# Altium integrated library Maxim Analog Comparator.IntLib: 215 symbols (part 1 of 5)
Pins are listed as number, name and electrical type; pins without a type are passive.

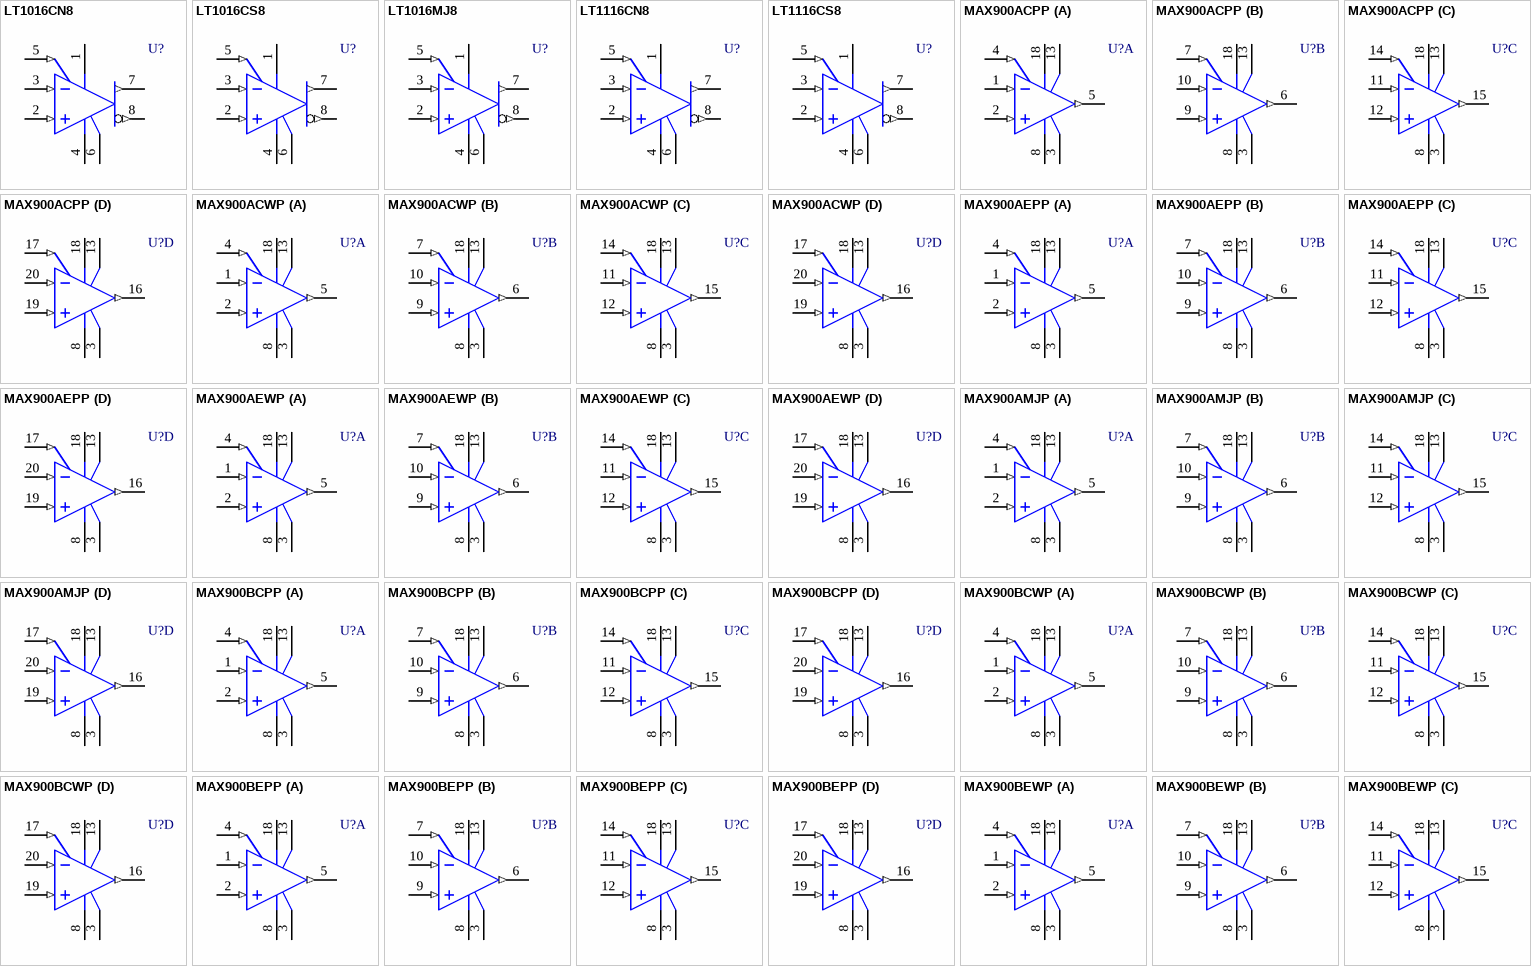
[diagram p0: symbols LT1016CN8 to MAX900BEWP]

## LT1016CN8
designator U?
Ultra-Fast, Precision TTL Comparator; Published: 16-Jan-2001; LatestRevisionDate: 29-May-2009; LatestRevisionNote: Component Body Added.; DatasheetVersion: Mar-1993; PackageVersion: RevB, 21-0043; PackageReference: PA8; Publisher: Altium Limited; PackageDescription: DIP, 8-Pin, Row Spacing 7.62 mm, Pitch 2.54 mm; Code_JEDEC: MS-001-AB; ComponentLink1Description: Manufacturer Link; ComponentLink1URL: http://www.maxim-ic.com/
footprint PA8 (DIP, 8-Leads, Row Spacing 7.62mm, Pitch 2.54mm, Body 9.38x7.24mm)
3D model PA8 (DIP, 8-Pin, Row Spacing 7.62 mm, Pitch 2.54 mm)
pins: 1 V+ (power), 2 IN+ (in), 3 IN- (in), 4 V- (power), 5 LE (in), 6 GND (power), 7 Q (out), 8 ~{Q} (out)

## LT1016CS8
designator U?
Ultra-Fast, Precision TTL Comparator; Published: 16-Jan-2001; LatestRevisionDate: 13-Apr-2006; LatestRevisionNote: IPC-7351 Footprint Added.; DatasheetVersion: Mar-1993; PackageReference: NSO8; Publisher: Altium Limited; PackageDescription: 8-Pin Small Outline Integrated Circuit 1.27 mm Pitch; Code_JEDEC: MS-012-AA; Code_IPC: SOIC127P600-8; ComponentLink1Description: Manufacturer Link; ComponentLink1URL: http://www.maxim-ic.com/
footprint NSO8_N (SOIC, 8-Leads, Body 4.9x3.9mm, Pitch 1.27mm, IPC Medium Density)
footprint NSO8_L (SOIC, 8-Leads, Body 4.9x3.9mm, Pitch 1.27mm, IPC High Density)
footprint NSO8_M (SOIC, 8-Leads, Body 4.9x3.9mm, Pitch 1.27mm, IPC Low Density)
3D model NSO8 (8-Pin Small Outline Integrated Circuit 1.27 mm Pitch)
pins: 1 V+ (power), 2 IN+ (in), 3 IN- (in), 4 V- (power), 5 LE (in), 6 GND (power), 7 Q (out), 8 ~{Q} (out)

## LT1016MJ8
designator U?
Ultra-Fast, Precision TTL Comparator; Published: 16-Jan-2001; LatestRevisionDate: 29-May-2009; LatestRevisionNote: Component Body Added.; DatasheetVersion: Mar-1993; PackageVersion: 1996; PackageReference: JA8; Publisher: Altium Limited; PackageDescription: DIP, 8-Pin, Row Spacing 7.62 mm, Pitch 2.54 mm; ComponentLink1Description: Manufacturer Link; ComponentLink1URL: http://www.maxim-ic.com/
footprint JA8 (DIP, 8-Leads, Row Spacing 7.62mm, Pitch 2.54mm, Body 9.91x6.73mm)
3D model PA8 (DIP, 8-Pin, Row Spacing 7.62 mm, Pitch 2.54 mm)
pins: 1 V+ (power), 2 IN+ (in), 3 IN- (in), 4 V- (power), 5 LE (in), 6 GND (power), 7 Q (out), 8 ~{Q} (out)

## LT1116CN8
designator U?
Ultra-Fast, Precision TTL Comparator; Published: 16-Jan-2001; LatestRevisionDate: 29-May-2009; LatestRevisionNote: Component Body Added.; DatasheetVersion: Mar-1993; PackageVersion: RevB, 21-0043; PackageReference: PA8; Publisher: Altium Limited; PackageDescription: DIP, 8-Pin, Row Spacing 7.62 mm, Pitch 2.54 mm; Code_JEDEC: MS-001-AB; ComponentLink1Description: Manufacturer Link; ComponentLink1URL: http://www.maxim-ic.com/
footprint PA8 (DIP, 8-Leads, Row Spacing 7.62mm, Pitch 2.54mm, Body 9.38x7.24mm)
3D model PA8 (DIP, 8-Pin, Row Spacing 7.62 mm, Pitch 2.54 mm)
pins: 1 V+ (power), 2 IN+ (in), 3 IN- (in), 4 V- (power), 5 LE (in), 6 GND (power), 7 Q (out), 8 ~{Q} (out)

## LT1116CS8
designator U?
Ultra-Fast, Precision TTL Comparator; Published: 16-Jan-2001; LatestRevisionDate: 13-Apr-2006; LatestRevisionNote: IPC-7351 Footprint Added.; DatasheetVersion: Mar-1993; PackageReference: NSO8; Publisher: Altium Limited; PackageDescription: 8-Pin Small Outline Integrated Circuit 1.27 mm Pitch; Code_JEDEC: MS-012-AA; Code_IPC: SOIC127P600-8; ComponentLink1Description: Manufacturer Link; ComponentLink1URL: http://www.maxim-ic.com/
footprint NSO8_N (SOIC, 8-Leads, Body 4.9x3.9mm, Pitch 1.27mm, IPC Medium Density)
footprint NSO8_L (SOIC, 8-Leads, Body 4.9x3.9mm, Pitch 1.27mm, IPC High Density)
footprint NSO8_M (SOIC, 8-Leads, Body 4.9x3.9mm, Pitch 1.27mm, IPC Low Density)
3D model NSO8 (8-Pin Small Outline Integrated Circuit 1.27 mm Pitch)
pins: 1 V+ (power), 2 IN+ (in), 3 IN- (in), 4 V- (power), 5 LE (in), 6 GND (power), 7 Q (out), 8 ~{Q} (out)

## MAX900ACPP
designator U?
High-speed, Low-power Voltage Comparator; Note: Pin 18 is Analog V+ and pin 13 is Digital V+; Pin 8 is Analog V- and substrate.; Published: 16-Jan-2001; LatestRevisionDate: 29-May-2009; LatestRevisionNote: Component Body Added.; DatasheetVersion: Nov-1992; PackageVersion: RevB, 21-0043; PackageReference: PP20; Publisher: Altium Limited; PackageDescription: DIP, 20-Pin, Row Spacing 7.62 mm, Pitch 2.54 mm; Code_JEDEC: MS-001-AE; ComponentLink1Description: Manufacturer Link; ComponentLink1URL: http://www.maxim-ic.com/; ComponentLink2Description: Datasheet; ComponentLink2URL: http://pdfserv.maxim-ic.com/en/ds/MAX900-MAX903.pdf
footprint PP20 (DIP, 20-Leads, Row Spacing 7.62mm, Pitch 2.54mm, Body 26.16x7.24mm)
3D model PP20 (DIP, 20-Pin, Row Spacing 7.62 mm, Pitch 2.54 mm)
pins on every part: 3 GND (power), 8 V- (power), 13 V+ (power), 18 V+ (power)
part A pins: 1 IN- (in), 2 IN+ (in), 4 LTCH (in), 5 OUT (out)
part B pins: 6 OUT (out), 7 LTCH (in), 9 IN+ (in), 10 IN- (in)
part C pins: 11 IN- (in), 12 IN+ (in), 14 LTCH (in), 15 OUT (out)
part D pins: 16 OUT (out), 17 LTCH (in), 19 IN+ (in), 20 IN- (in)

## MAX900ACWP
designator U?
High-speed, Low-power Voltage Comparator; Note: Pin 18 is Analog V+ and pin 13 is Digital V+; Pin 8 is Analog V- and substrate.; Published: 16-Jan-2001; LatestRevisionDate: 13-Apr-2006; LatestRevisionNote: IPC-7351 Footprint Added.; DatasheetVersion: Nov-1992; PackageReference: WSO20; Publisher: Altium Limited; PackageDescription: 20-Pin Small Outline Integrated Circuit 1.27 mm Pitch; Code_JEDEC: MS-013-AC; Code_IPC: SOIC127P1030-20; ComponentLink1Description: Manufacturer Link; ComponentLink1URL: http://www.maxim-ic.com/; ComponentLink2Description: Datasheet; ComponentLink2URL: http://pdfserv.maxim-ic.com/en/ds/MAX900-MAX903.pdf
footprint WSO20_N (SOIC, 20-Leads, Body 12.8x7.5mm, Pitch 1.27mm, IPC Medium Density)
footprint WSO20_L (SOIC, 20-Leads, Body 12.8x7.5mm, Pitch 1.27mm, IPC High Density)
footprint WSO20_M (SOIC, 20-Leads, Body 12.8x7.5mm, Pitch 1.27mm, IPC Low Density)
3D model WSO20 (20-Pin Small Outline Integrated Circuit 1.27 mm Pitch)
pins on every part: 3 GND (power), 8 V- (power), 13 V+ (power), 18 V+ (power)
part A pins: 1 IN- (in), 2 IN+ (in), 4 LTCH (in), 5 OUT (out)
part B pins: 6 OUT (out), 7 LTCH (in), 9 IN+ (in), 10 IN- (in)
part C pins: 11 IN- (in), 12 IN+ (in), 14 LTCH (in), 15 OUT (out)
part D pins: 16 OUT (out), 17 LTCH (in), 19 IN+ (in), 20 IN- (in)

## MAX900AEPP
designator U?
High-speed, Low-power Voltage Comparator; Note: Pin 18 is Analog V+ and pin 13 is Digital V+; Pin 8 is Analog V- and substrate.; Published: 16-Jan-2001; LatestRevisionDate: 29-May-2009; LatestRevisionNote: Component Body Added.; DatasheetVersion: Nov-1992; PackageVersion: RevB, 21-0043; PackageReference: PP20; Publisher: Altium Limited; PackageDescription: DIP, 20-Pin, Row Spacing 7.62 mm, Pitch 2.54 mm; Code_JEDEC: MS-001-AE; ComponentLink1Description: Manufacturer Link; ComponentLink1URL: http://www.maxim-ic.com/; ComponentLink2Description: Datasheet; ComponentLink2URL: http://pdfserv.maxim-ic.com/en/ds/MAX900-MAX903.pdf
footprint PP20 (DIP, 20-Leads, Row Spacing 7.62mm, Pitch 2.54mm, Body 26.16x7.24mm)
3D model PP20 (DIP, 20-Pin, Row Spacing 7.62 mm, Pitch 2.54 mm)
pins on every part: 3 GND (power), 8 V- (power), 13 V+ (power), 18 V+ (power)
part A pins: 1 IN- (in), 2 IN+ (in), 4 LTCH (in), 5 OUT (out)
part B pins: 6 OUT (out), 7 LTCH (in), 9 IN+ (in), 10 IN- (in)
part C pins: 11 IN- (in), 12 IN+ (in), 14 LTCH (in), 15 OUT (out)
part D pins: 16 OUT (out), 17 LTCH (in), 19 IN+ (in), 20 IN- (in)

## MAX900AEWP
designator U?
High-speed, Low-power Voltage Comparator; Note: Pin 18 is Analog V+ and pin 13 is Digital V+; Pin 8 is Analog V- and substrate.; Published: 16-Jan-2001; LatestRevisionDate: 13-Apr-2006; LatestRevisionNote: IPC-7351 Footprint Added.; DatasheetVersion: Nov-1992; PackageReference: WSO20; Publisher: Altium Limited; PackageDescription: 20-Pin Small Outline Integrated Circuit 1.27 mm Pitch; Code_JEDEC: MS-013-AC; Code_IPC: SOIC127P1030-20; ComponentLink1Description: Manufacturer Link; ComponentLink1URL: http://www.maxim-ic.com/; ComponentLink2Description: Datasheet; ComponentLink2URL: http://pdfserv.maxim-ic.com/en/ds/MAX900-MAX903.pdf
footprint WSO20_N (SOIC, 20-Leads, Body 12.8x7.5mm, Pitch 1.27mm, IPC Medium Density)
footprint WSO20_L (SOIC, 20-Leads, Body 12.8x7.5mm, Pitch 1.27mm, IPC High Density)
footprint WSO20_M (SOIC, 20-Leads, Body 12.8x7.5mm, Pitch 1.27mm, IPC Low Density)
3D model WSO20 (20-Pin Small Outline Integrated Circuit 1.27 mm Pitch)
pins on every part: 3 GND (power), 8 V- (power), 13 V+ (power), 18 V+ (power)
part A pins: 1 IN- (in), 2 IN+ (in), 4 LTCH (in), 5 OUT (out)
part B pins: 6 OUT (out), 7 LTCH (in), 9 IN+ (in), 10 IN- (in)
part C pins: 11 IN- (in), 12 IN+ (in), 14 LTCH (in), 15 OUT (out)
part D pins: 16 OUT (out), 17 LTCH (in), 19 IN+ (in), 20 IN- (in)

## MAX900AMJP
designator U?
High-speed, Low-power Voltage Comparator; Note: Pin 18 is Analog V+ and pin 13 is Digital V+; Pin 8 is Analog V- and substrate.; Published: 16-Jan-2001; LatestRevisionDate: 29-May-2009; LatestRevisionNote: Component Body Added.; DatasheetVersion: Nov-1992; PackageVersion: 1996; PackageReference: JP20; Publisher: Altium Limited; PackageDescription: DIP, 20-Pin, Row Spacing 7.62 mm, Pitch 2.54 mm; Code_JEDEC: MS-001-AD; ComponentLink1Description: Manufacturer Link; ComponentLink1URL: http://www.maxim-ic.com/; ComponentLink2Description: Datasheet; ComponentLink2URL: http://pdfserv.maxim-ic.com/en/ds/MAX900-MAX903.pdf
footprint JP20 (DIP, 20-Leads, Row Spacing 7.62mm, Pitch 2.54mm, Body 25.91x6.73mm)
3D model PP20 (DIP, 20-Pin, Row Spacing 7.62 mm, Pitch 2.54 mm)
pins on every part: 3 GND (power), 8 V- (power), 13 V+ (power), 18 V+ (power)
part A pins: 1 IN- (in), 2 IN+ (in), 4 LTCH (in), 5 OUT (out)
part B pins: 6 OUT (out), 7 LTCH (in), 9 IN+ (in), 10 IN- (in)
part C pins: 11 IN- (in), 12 IN+ (in), 14 LTCH (in), 15 OUT (out)
part D pins: 16 OUT (out), 17 LTCH (in), 19 IN+ (in), 20 IN- (in)

## MAX900BCPP
designator U?
High-speed, Low-power Voltage Comparator; Note: Pin 18 is Analog V+ and pin 13 is Digital V+; Pin 8 is Analog V- and substrate.; Published: 16-Jan-2001; LatestRevisionDate: 29-May-2009; LatestRevisionNote: Component Body Added.; DatasheetVersion: Nov-1992; PackageVersion: RevB, 21-0043; PackageReference: PP20; Publisher: Altium Limited; PackageDescription: DIP, 20-Pin, Row Spacing 7.62 mm, Pitch 2.54 mm; Code_JEDEC: MS-001-AE; ComponentLink1Description: Manufacturer Link; ComponentLink1URL: http://www.maxim-ic.com/; ComponentLink2Description: Datasheet; ComponentLink2URL: http://pdfserv.maxim-ic.com/en/ds/MAX900-MAX903.pdf
footprint PP20 (DIP, 20-Leads, Row Spacing 7.62mm, Pitch 2.54mm, Body 26.16x7.24mm)
3D model PP20 (DIP, 20-Pin, Row Spacing 7.62 mm, Pitch 2.54 mm)
pins on every part: 3 GND (power), 8 V- (power), 13 V+ (power), 18 V+ (power)
part A pins: 1 IN- (in), 2 IN+ (in), 4 LTCH (in), 5 OUT (out)
part B pins: 6 OUT (out), 7 LTCH (in), 9 IN+ (in), 10 IN- (in)
part C pins: 11 IN- (in), 12 IN+ (in), 14 LTCH (in), 15 OUT (out)
part D pins: 16 OUT (out), 17 LTCH (in), 19 IN+ (in), 20 IN- (in)

## MAX900BCWP
designator U?
High-speed, Low-power Voltage Comparator; Note: Pin 18 is Analog V+ and pin 13 is Digital V+; Pin 8 is Analog V- and substrate.; Published: 16-Jan-2001; LatestRevisionDate: 13-Apr-2006; LatestRevisionNote: IPC-7351 Footprint Added.; DatasheetVersion: Nov-1992; PackageReference: WSO20; Publisher: Altium Limited; PackageDescription: 20-Pin Small Outline Integrated Circuit 1.27 mm Pitch; Code_JEDEC: MS-013-AC; Code_IPC: SOIC127P1030-20; ComponentLink1Description: Manufacturer Link; ComponentLink1URL: http://www.maxim-ic.com/; ComponentLink2Description: Datasheet; ComponentLink2URL: http://pdfserv.maxim-ic.com/en/ds/MAX900-MAX903.pdf
footprint WSO20_N (SOIC, 20-Leads, Body 12.8x7.5mm, Pitch 1.27mm, IPC Medium Density)
footprint WSO20_L (SOIC, 20-Leads, Body 12.8x7.5mm, Pitch 1.27mm, IPC High Density)
footprint WSO20_M (SOIC, 20-Leads, Body 12.8x7.5mm, Pitch 1.27mm, IPC Low Density)
3D model WSO20 (20-Pin Small Outline Integrated Circuit 1.27 mm Pitch)
pins on every part: 3 GND (power), 8 V- (power), 13 V+ (power), 18 V+ (power)
part A pins: 1 IN- (in), 2 IN+ (in), 4 LTCH (in), 5 OUT (out)
part B pins: 6 OUT (out), 7 LTCH (in), 9 IN+ (in), 10 IN- (in)
part C pins: 11 IN- (in), 12 IN+ (in), 14 LTCH (in), 15 OUT (out)
part D pins: 16 OUT (out), 17 LTCH (in), 19 IN+ (in), 20 IN- (in)

## MAX900BEPP
designator U?
High-speed, Low-power Voltage Comparator; Note: Pin 18 is Analog V+ and pin 13 is Digital V+; Pin 8 is Analog V- and substrate.; Published: 16-Jan-2001; LatestRevisionDate: 29-May-2009; LatestRevisionNote: Component Body Added.; DatasheetVersion: Nov-1992; PackageVersion: RevB, 21-0043; PackageReference: PP20; Publisher: Altium Limited; PackageDescription: DIP, 20-Pin, Row Spacing 7.62 mm, Pitch 2.54 mm; Code_JEDEC: MS-001-AE; ComponentLink1Description: Manufacturer Link; ComponentLink1URL: http://www.maxim-ic.com/; ComponentLink2Description: Datasheet; ComponentLink2URL: http://pdfserv.maxim-ic.com/en/ds/MAX900-MAX903.pdf
footprint PP20 (DIP, 20-Leads, Row Spacing 7.62mm, Pitch 2.54mm, Body 26.16x7.24mm)
3D model PP20 (DIP, 20-Pin, Row Spacing 7.62 mm, Pitch 2.54 mm)
pins on every part: 3 GND (power), 8 V- (power), 13 V+ (power), 18 V+ (power)
part A pins: 1 IN- (in), 2 IN+ (in), 4 LTCH (in), 5 OUT (out)
part B pins: 6 OUT (out), 7 LTCH (in), 9 IN+ (in), 10 IN- (in)
part C pins: 11 IN- (in), 12 IN+ (in), 14 LTCH (in), 15 OUT (out)
part D pins: 16 OUT (out), 17 LTCH (in), 19 IN+ (in), 20 IN- (in)

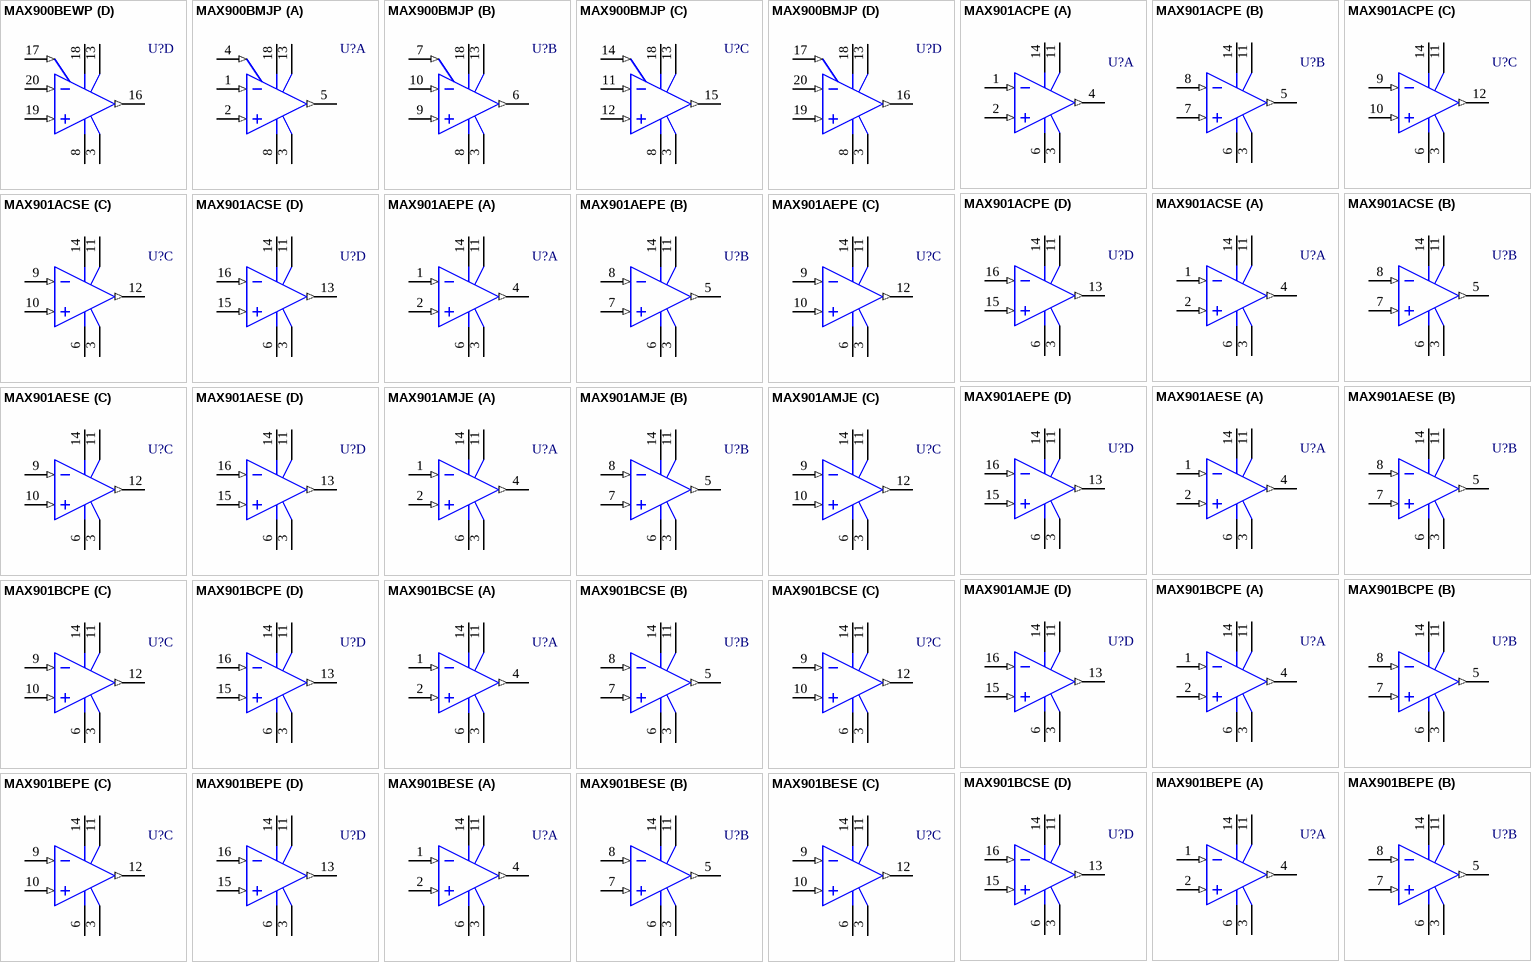
[diagram p1: symbols MAX900BEWP to MAX901BESE]

## MAX900BEWP
designator U?
High-speed, Low-power Voltage Comparator; Note: Pin 18 is Analog V+ and pin 13 is Digital V+; Pin 8 is Analog V- and substrate.; Published: 16-Jan-2001; LatestRevisionDate: 13-Apr-2006; LatestRevisionNote: IPC-7351 Footprint Added.; DatasheetVersion: Nov-1992; PackageReference: WSO20; Publisher: Altium Limited; PackageDescription: 20-Pin Small Outline Integrated Circuit 1.27 mm Pitch; Code_JEDEC: MS-013-AC; Code_IPC: SOIC127P1030-20; ComponentLink1Description: Manufacturer Link; ComponentLink1URL: http://www.maxim-ic.com/; ComponentLink2Description: Datasheet; ComponentLink2URL: http://pdfserv.maxim-ic.com/en/ds/MAX900-MAX903.pdf
footprint WSO20_N (SOIC, 20-Leads, Body 12.8x7.5mm, Pitch 1.27mm, IPC Medium Density)
footprint WSO20_L (SOIC, 20-Leads, Body 12.8x7.5mm, Pitch 1.27mm, IPC High Density)
footprint WSO20_M (SOIC, 20-Leads, Body 12.8x7.5mm, Pitch 1.27mm, IPC Low Density)
3D model WSO20 (20-Pin Small Outline Integrated Circuit 1.27 mm Pitch)
pins on every part: 3 GND (power), 8 V- (power), 13 V+ (power), 18 V+ (power)
part A pins: 1 IN- (in), 2 IN+ (in), 4 LTCH (in), 5 OUT (out)
part B pins: 6 OUT (out), 7 LTCH (in), 9 IN+ (in), 10 IN- (in)
part C pins: 11 IN- (in), 12 IN+ (in), 14 LTCH (in), 15 OUT (out)
part D pins: 16 OUT (out), 17 LTCH (in), 19 IN+ (in), 20 IN- (in)

## MAX900BMJP
designator U?
High-speed, Low-power Voltage Comparator; Note: Pin 18 is Analog V+ and pin 13 is Digital V+; Pin 8 is Analog V- and substrate.; Published: 16-Jan-2001; LatestRevisionDate: 29-May-2009; LatestRevisionNote: Component Body Added.; DatasheetVersion: Nov-1992; PackageVersion: 1996; PackageReference: JP20; Publisher: Altium Limited; PackageDescription: DIP, 20-Pin, Row Spacing 7.62 mm, Pitch 2.54 mm; Code_JEDEC: MS-001-AD; ComponentLink1Description: Manufacturer Link; ComponentLink1URL: http://www.maxim-ic.com/; ComponentLink2Description: Datasheet; ComponentLink2URL: http://pdfserv.maxim-ic.com/en/ds/MAX900-MAX903.pdf
footprint JP20 (DIP, 20-Leads, Row Spacing 7.62mm, Pitch 2.54mm, Body 25.91x6.73mm)
3D model PP20 (DIP, 20-Pin, Row Spacing 7.62 mm, Pitch 2.54 mm)
pins on every part: 3 GND (power), 8 V- (power), 13 V+ (power), 18 V+ (power)
part A pins: 1 IN- (in), 2 IN+ (in), 4 LTCH (in), 5 OUT (out)
part B pins: 6 OUT (out), 7 LTCH (in), 9 IN+ (in), 10 IN- (in)
part C pins: 11 IN- (in), 12 IN+ (in), 14 LTCH (in), 15 OUT (out)
part D pins: 16 OUT (out), 17 LTCH (in), 19 IN+ (in), 20 IN- (in)

## MAX901ACPE
designator U?
High-speed, Low-power Voltage Comparator; Note: Pin 14 is Analog V+ and pin 11 is Digital V+; Pin 6 is Analog V- and substrate.; Published: 16-Jan-2001; LatestRevisionDate: 29-May-2009; LatestRevisionNote: Component Body Added.; DatasheetVersion: Nov-1992; PackageVersion: 1997; PackageReference: PE16A; Publisher: Altium Limited; PackageDescription: DIP, 16-Pin, Row Spacing 7.62 mm, Pitch 2.54 mm; Code_JEDEC: MS-001-BB; ComponentLink1Description: Manufacturer Link; ComponentLink1URL: http://www.maxim-ic.com/; ComponentLink2Description: Datasheet; ComponentLink2URL: http://pdfserv.maxim-ic.com/en/ds/MAX900-MAX903.pdf
footprint PE16A (DIP, 16-Leads, Row Spacing 7.62mm, Pitch 2.54mm, Body 19.18x6.99mm)
3D model PE16 (DIP, 16-Pin, Row Spacing 7.62 mm, Pitch 2.54 mm)
pins on every part: 3 GND (power), 6 V- (power), 11 V+ (power), 14 V+ (power)
part A pins: 1 IN- (in), 2 IN+ (in), 4 OUT (out)
part B pins: 5 OUT (out), 7 IN+ (in), 8 IN- (in)
part C pins: 9 IN- (in), 10 IN+ (in), 12 OUT (out)
part D pins: 13 OUT (out), 15 IN+ (in), 16 IN- (in)

## MAX901ACSE
designator U?
High-speed, Low-power Voltage Comparator; Note: Pin 14 is Analog V+ and pin 11 is Digital V+; Pin 6 is Analog V- and substrate.; Published: 16-Jan-2001; LatestRevisionDate: 13-Apr-2006; LatestRevisionNote: IPC-7351 Footprint Added.; DatasheetVersion: Nov-1992; PackageReference: NSO16; Publisher: Altium Limited; PackageDescription: 16-Pin Small Outline Integrated Circuit 1.27 mm Pitch; Code_JEDEC: MS-012-AC; Code_IPC: SOIC127P600-16; ComponentLink1Description: Manufacturer Link; ComponentLink1URL: http://www.maxim-ic.com/; ComponentLink2Description: Datasheet; ComponentLink2URL: http://pdfserv.maxim-ic.com/en/ds/MAX900-MAX903.pdf
footprint NSO16_N (SOIC, 16-Leads, Body 9.9x3.9mm, Pitch 1.27mm, IPC Medium Density)
footprint NSO16_L (SOIC, 16-Leads, Body 9.9x3.9mm, Pitch 1.27mm, IPC High Density)
footprint NSO16_M (SOIC, 16-Leads, Body 9.9x3.9mm, Pitch 1.27mm, IPC Low Density)
3D model NSO16 (16-Pin Small Outline Integrated Circuit 1.27 mm Pitch)
pins on every part: 3 GND (power), 6 V- (power), 11 V+ (power), 14 V+ (power)
part A pins: 1 IN- (in), 2 IN+ (in), 4 OUT (out)
part B pins: 5 OUT (out), 7 IN+ (in), 8 IN- (in)
part C pins: 9 IN- (in), 10 IN+ (in), 12 OUT (out)
part D pins: 13 OUT (out), 15 IN+ (in), 16 IN- (in)

## MAX901AEPE
designator U?
High-speed, Low-power Voltage Comparator; Note: Pin 14 is Analog V+ and pin 11 is Digital V+; Pin 6 is Analog V- and substrate.; Published: 16-Jan-2001; LatestRevisionDate: 29-May-2009; LatestRevisionNote: Component Body Added.; DatasheetVersion: Nov-1992; PackageVersion: 1997; PackageReference: PE16A; Publisher: Altium Limited; PackageDescription: DIP, 16-Pin, Row Spacing 7.62 mm, Pitch 2.54 mm; Code_JEDEC: MS-001-BB; ComponentLink1Description: Manufacturer Link; ComponentLink1URL: http://www.maxim-ic.com/; ComponentLink2Description: Datasheet; ComponentLink2URL: http://pdfserv.maxim-ic.com/en/ds/MAX900-MAX903.pdf
footprint PE16A (DIP, 16-Leads, Row Spacing 7.62mm, Pitch 2.54mm, Body 19.18x6.99mm)
3D model PE16 (DIP, 16-Pin, Row Spacing 7.62 mm, Pitch 2.54 mm)
pins on every part: 3 GND (power), 6 V- (power), 11 V+ (power), 14 V+ (power)
part A pins: 1 IN- (in), 2 IN+ (in), 4 OUT (out)
part B pins: 5 OUT (out), 7 IN+ (in), 8 IN- (in)
part C pins: 9 IN- (in), 10 IN+ (in), 12 OUT (out)
part D pins: 13 OUT (out), 15 IN+ (in), 16 IN- (in)

## MAX901AESE
designator U?
High-speed, Low-power Voltage Comparator; Note: Pin 14 is Analog V+ and pin 11 is Digital V+; Pin 6 is Analog V- and substrate.; Published: 16-Jan-2001; LatestRevisionDate: 13-Apr-2006; LatestRevisionNote: IPC-7351 Footprint Added.; DatasheetVersion: Nov-1992; PackageReference: NSO16; Publisher: Altium Limited; PackageDescription: 16-Pin Small Outline Integrated Circuit 1.27 mm Pitch; Code_JEDEC: MS-012-AC; Code_IPC: SOIC127P600-16; ComponentLink1Description: Manufacturer Link; ComponentLink1URL: http://www.maxim-ic.com/; ComponentLink2Description: Datasheet; ComponentLink2URL: http://pdfserv.maxim-ic.com/en/ds/MAX900-MAX903.pdf
footprint NSO16_N (SOIC, 16-Leads, Body 9.9x3.9mm, Pitch 1.27mm, IPC Medium Density)
footprint NSO16_L (SOIC, 16-Leads, Body 9.9x3.9mm, Pitch 1.27mm, IPC High Density)
footprint NSO16_M (SOIC, 16-Leads, Body 9.9x3.9mm, Pitch 1.27mm, IPC Low Density)
3D model NSO16 (16-Pin Small Outline Integrated Circuit 1.27 mm Pitch)
pins on every part: 3 GND (power), 6 V- (power), 11 V+ (power), 14 V+ (power)
part A pins: 1 IN- (in), 2 IN+ (in), 4 OUT (out)
part B pins: 5 OUT (out), 7 IN+ (in), 8 IN- (in)
part C pins: 9 IN- (in), 10 IN+ (in), 12 OUT (out)
part D pins: 13 OUT (out), 15 IN+ (in), 16 IN- (in)

## MAX901AMJE
designator U?
High-speed, Low-power Voltage Comparator; Note: Pin 14 is Analog V+ and pin 11 is Digital V+; Pin 6 is Analog V- and substrate.; Published: 16-Jan-2001; LatestRevisionDate: 29-May-2009; LatestRevisionNote: Component Body Added.; DatasheetVersion: Nov-1992; PackageVersion: 1996; PackageReference: JE16; Publisher: Altium Limited; PackageDescription: DIP, 16-Pin, Row Spacing 7.62 mm, Pitch 2.54 mm; ComponentLink1Description: Manufacturer Link; ComponentLink1URL: http://www.maxim-ic.com/; ComponentLink2Description: Datasheet; ComponentLink2URL: http://pdfserv.maxim-ic.com/en/ds/MAX900-MAX903.pdf
footprint JE16 (DIP, 16-Leads, Row Spacing 7.62mm, Pitch 2.54mm, Body 20.37x6.73mm)
3D model JE16 (DIP, 16-Pin, Row Spacing 7.62 mm, Pitch 2.54 mm)
pins on every part: 3 GND (power), 6 V- (power), 11 V+ (power), 14 V+ (power)
part A pins: 1 IN- (in), 2 IN+ (in), 4 OUT (out)
part B pins: 5 OUT (out), 7 IN+ (in), 8 IN- (in)
part C pins: 9 IN- (in), 10 IN+ (in), 12 OUT (out)
part D pins: 13 OUT (out), 15 IN+ (in), 16 IN- (in)

## MAX901BCPE
designator U?
High-speed, Low-power Voltage Comparator; Note: Pin 14 is Analog V+ and pin 11 is Digital V+; Pin 6 is Analog V- and substrate.; Published: 16-Jan-2001; LatestRevisionDate: 29-May-2009; LatestRevisionNote: Component Body Added.; DatasheetVersion: Nov-1992; PackageVersion: 1997; PackageReference: PE16A; Publisher: Altium Limited; PackageDescription: DIP, 16-Pin, Row Spacing 7.62 mm, Pitch 2.54 mm; Code_JEDEC: MS-001-BB; ComponentLink1Description: Manufacturer Link; ComponentLink1URL: http://www.maxim-ic.com/; ComponentLink2Description: Datasheet; ComponentLink2URL: http://pdfserv.maxim-ic.com/en/ds/MAX900-MAX903.pdf
footprint PE16A (DIP, 16-Leads, Row Spacing 7.62mm, Pitch 2.54mm, Body 19.18x6.99mm)
3D model PE16 (DIP, 16-Pin, Row Spacing 7.62 mm, Pitch 2.54 mm)
pins on every part: 3 GND (power), 6 V- (power), 11 V+ (power), 14 V+ (power)
part A pins: 1 IN- (in), 2 IN+ (in), 4 OUT (out)
part B pins: 5 OUT (out), 7 IN+ (in), 8 IN- (in)
part C pins: 9 IN- (in), 10 IN+ (in), 12 OUT (out)
part D pins: 13 OUT (out), 15 IN+ (in), 16 IN- (in)

## MAX901BCSE
designator U?
High-speed, Low-power Voltage Comparator; Note: Pin 14 is Analog V+ and pin 11 is Digital V+; Pin 6 is Analog V- and substrate.; Published: 16-Jan-2001; LatestRevisionDate: 13-Apr-2006; LatestRevisionNote: IPC-7351 Footprint Added.; DatasheetVersion: Nov-1992; PackageReference: NSO16; Publisher: Altium Limited; PackageDescription: 16-Pin Small Outline Integrated Circuit 1.27 mm Pitch; Code_JEDEC: MS-012-AC; Code_IPC: SOIC127P600-16; ComponentLink1Description: Manufacturer Link; ComponentLink1URL: http://www.maxim-ic.com/; ComponentLink2Description: Datasheet; ComponentLink2URL: http://pdfserv.maxim-ic.com/en/ds/MAX900-MAX903.pdf
footprint NSO16_N (SOIC, 16-Leads, Body 9.9x3.9mm, Pitch 1.27mm, IPC Medium Density)
footprint NSO16_L (SOIC, 16-Leads, Body 9.9x3.9mm, Pitch 1.27mm, IPC High Density)
footprint NSO16_M (SOIC, 16-Leads, Body 9.9x3.9mm, Pitch 1.27mm, IPC Low Density)
3D model NSO16 (16-Pin Small Outline Integrated Circuit 1.27 mm Pitch)
pins on every part: 3 GND (power), 6 V- (power), 11 V+ (power), 14 V+ (power)
part A pins: 1 IN- (in), 2 IN+ (in), 4 OUT (out)
part B pins: 5 OUT (out), 7 IN+ (in), 8 IN- (in)
part C pins: 9 IN- (in), 10 IN+ (in), 12 OUT (out)
part D pins: 13 OUT (out), 15 IN+ (in), 16 IN- (in)

## MAX901BEPE
designator U?
High-speed, Low-power Voltage Comparator; Note: Pin 14 is Analog V+ and pin 11 is Digital V+; Pin 6 is Analog V- and substrate.; Published: 16-Jan-2001; LatestRevisionDate: 29-May-2009; LatestRevisionNote: Component Body Added.; DatasheetVersion: Nov-1992; PackageVersion: 1997; PackageReference: PE16A; Publisher: Altium Limited; PackageDescription: DIP, 16-Pin, Row Spacing 7.62 mm, Pitch 2.54 mm; Code_JEDEC: MS-001-BB; ComponentLink1Description: Manufacturer Link; ComponentLink1URL: http://www.maxim-ic.com/; ComponentLink2Description: Datasheet; ComponentLink2URL: http://pdfserv.maxim-ic.com/en/ds/MAX900-MAX903.pdf
footprint PE16A (DIP, 16-Leads, Row Spacing 7.62mm, Pitch 2.54mm, Body 19.18x6.99mm)
3D model PE16 (DIP, 16-Pin, Row Spacing 7.62 mm, Pitch 2.54 mm)
pins on every part: 3 GND (power), 6 V- (power), 11 V+ (power), 14 V+ (power)
part A pins: 1 IN- (in), 2 IN+ (in), 4 OUT (out)
part B pins: 5 OUT (out), 7 IN+ (in), 8 IN- (in)
part C pins: 9 IN- (in), 10 IN+ (in), 12 OUT (out)
part D pins: 13 OUT (out), 15 IN+ (in), 16 IN- (in)

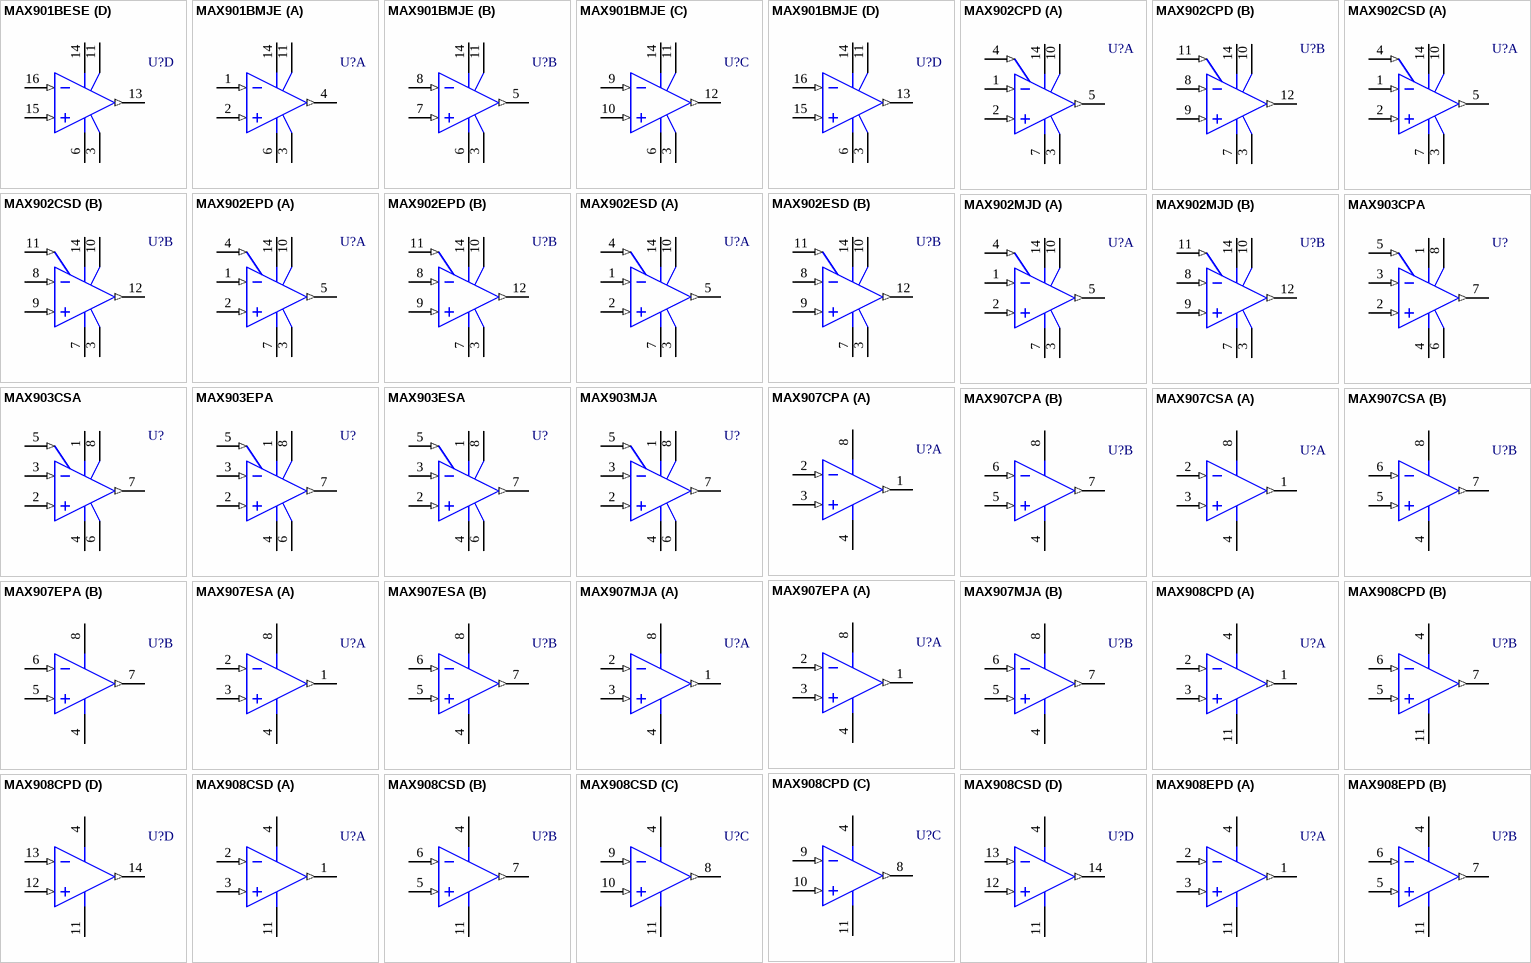
[diagram p2: symbols MAX901BESE to MAX908EPD]

## MAX901BESE
designator U?
High-speed, Low-power Voltage Comparator; Note: Pin 14 is Analog V+ and pin 11 is Digital V+; Pin 6 is Analog V- and substrate.; Published: 16-Jan-2001; LatestRevisionDate: 13-Apr-2006; LatestRevisionNote: IPC-7351 Footprint Added.; DatasheetVersion: Nov-1992; PackageReference: NSO16; Publisher: Altium Limited; PackageDescription: 16-Pin Small Outline Integrated Circuit 1.27 mm Pitch; Code_JEDEC: MS-012-AC; Code_IPC: SOIC127P600-16; ComponentLink1Description: Manufacturer Link; ComponentLink1URL: http://www.maxim-ic.com/; ComponentLink2Description: Datasheet; ComponentLink2URL: http://pdfserv.maxim-ic.com/en/ds/MAX900-MAX903.pdf
footprint NSO16_N (SOIC, 16-Leads, Body 9.9x3.9mm, Pitch 1.27mm, IPC Medium Density)
footprint NSO16_L (SOIC, 16-Leads, Body 9.9x3.9mm, Pitch 1.27mm, IPC High Density)
footprint NSO16_M (SOIC, 16-Leads, Body 9.9x3.9mm, Pitch 1.27mm, IPC Low Density)
3D model NSO16 (16-Pin Small Outline Integrated Circuit 1.27 mm Pitch)
pins on every part: 3 GND (power), 6 V- (power), 11 V+ (power), 14 V+ (power)
part A pins: 1 IN- (in), 2 IN+ (in), 4 OUT (out)
part B pins: 5 OUT (out), 7 IN+ (in), 8 IN- (in)
part C pins: 9 IN- (in), 10 IN+ (in), 12 OUT (out)
part D pins: 13 OUT (out), 15 IN+ (in), 16 IN- (in)

## MAX901BMJE
designator U?
High-speed, Low-power Voltage Comparator; Note: Pin 14 is Analog V+ and pin 11 is Digital V+; Pin 6 is Analog V- and substrate.; Published: 16-Jan-2001; LatestRevisionDate: 29-May-2009; LatestRevisionNote: Component Body Added.; DatasheetVersion: Nov-1992; PackageVersion: 1996; PackageReference: JE16; Publisher: Altium Limited; PackageDescription: DIP, 16-Pin, Row Spacing 7.62 mm, Pitch 2.54 mm; ComponentLink1Description: Manufacturer Link; ComponentLink1URL: http://www.maxim-ic.com/; ComponentLink2Description: Datasheet; ComponentLink2URL: http://pdfserv.maxim-ic.com/en/ds/MAX900-MAX903.pdf
footprint JE16 (DIP, 16-Leads, Row Spacing 7.62mm, Pitch 2.54mm, Body 20.37x6.73mm)
3D model JE16 (DIP, 16-Pin, Row Spacing 7.62 mm, Pitch 2.54 mm)
pins on every part: 3 GND (power), 6 V- (power), 11 V+ (power), 14 V+ (power)
part A pins: 1 IN- (in), 2 IN+ (in), 4 OUT (out)
part B pins: 5 OUT (out), 7 IN+ (in), 8 IN- (in)
part C pins: 9 IN- (in), 10 IN+ (in), 12 OUT (out)
part D pins: 13 OUT (out), 15 IN+ (in), 16 IN- (in)

## MAX902CPD
designator U?
High-speed, Low-power Voltage Comparator; Note: Pin 14 is Analog V+ and pin 10 is Digital V+; Pin 7 is Analog V- and substrate. Pins 6 and 13 are NC and not drawn.; Published: 16-Jan-2001; LatestRevisionDate: 29-May-2009; LatestRevisionNote: Component Body Added.; DatasheetVersion: Nov-1992; PackageVersion: RevB, 21-0043; PackageReference: PD14; Publisher: Altium Limited; PackageDescription: DIP, 14-Pin, Row Spacing 7.62 mm, Pitch 2.54 mm; Code_JEDEC: MS-001-AC; ComponentLink1Description: Manufacturer Link; ComponentLink1URL: http://www.maxim-ic.com/; ComponentLink2Description: Datasheet; ComponentLink2URL: http://pdfserv.maxim-ic.com/en/ds/MAX900-MAX903.pdf
footprint PD14 (DIP, 14-Leads, Row Spacing 7.62mm, Pitch 2.54mm, Body 19.05x7.24mm)
3D model PD14 (DIP, 14-Pin, Row Spacing 7.62 mm, Pitch 2.54 mm)
pins on every part: 3 GND (power), 7 V- (power), 10 V+ (power), 14 V+ (power)
part A pins: 1 IN- (in), 2 IN+ (in), 4 LTCH (in), 5 OUT (out)
part B pins: 8 IN- (in), 9 IN+ (in), 11 LTCH (in), 12 OUT (out)

## MAX902CSD
designator U?
High-speed, Low-power Voltage Comparator; Note: Pin 14 is Analog V+ and pin 10 is Digital V+; Pin 7 is Analog V- and substrate. Pins 6 and 13 are NC and not drawn.; Published: 16-Jan-2001; LatestRevisionDate: 13-Apr-2006; LatestRevisionNote: IPC-7351 Footprint Added.; DatasheetVersion: Nov-1992; PackageReference: NSO14; Publisher: Altium Limited; PackageDescription: 14-Pin Small Outline Integrated Circuit 1.27 mm Pitch; Code_JEDEC: MS-012-AB; Code_IPC: SOIC127P600-14; ComponentLink1Description: Manufacturer Link; ComponentLink1URL: http://www.maxim-ic.com/; ComponentLink2Description: Datasheet; ComponentLink2URL: http://pdfserv.maxim-ic.com/en/ds/MAX900-MAX903.pdf
footprint NSO14_N (SOIC, 14-Leads, Body 8.7x3.9mm, Pitch 1.27mm, IPC Medium Density)
footprint NSO14_L (SOIC, 14-Leads, Body 8.7x3.9mm, Pitch 1.27mm, IPC High Density)
footprint NSO14_M (SOIC, 14-Leads, Body 8.7x3.9mm, Pitch 1.27mm, IPC Low Density)
3D model NSO14 (14-Pin Small Outline Integrated Circuit 1.27 mm Pitch)
pins on every part: 3 GND (power), 7 V- (power), 10 V+ (power), 14 V+ (power)
part A pins: 1 IN- (in), 2 IN+ (in), 4 LTCH (in), 5 OUT (out)
part B pins: 8 IN- (in), 9 IN+ (in), 11 LTCH (in), 12 OUT (out)

## MAX902EPD
designator U?
High-speed, Low-power Voltage Comparator; Note: Pin 14 is Analog V+ and pin 10 is Digital V+; Pin 7 is Analog V- and substrate. Pins 6 and 13 are NC and not drawn.; Published: 16-Jan-2001; LatestRevisionDate: 29-May-2009; LatestRevisionNote: Component Body Added.; DatasheetVersion: Nov-1992; PackageVersion: RevB, 21-0043; PackageReference: PD14; Publisher: Altium Limited; PackageDescription: DIP, 14-Pin, Row Spacing 7.62 mm, Pitch 2.54 mm; Code_JEDEC: MS-001-AC; ComponentLink1Description: Manufacturer Link; ComponentLink1URL: http://www.maxim-ic.com/; ComponentLink2Description: Datasheet; ComponentLink2URL: http://pdfserv.maxim-ic.com/en/ds/MAX900-MAX903.pdf
footprint PD14 (DIP, 14-Leads, Row Spacing 7.62mm, Pitch 2.54mm, Body 19.05x7.24mm)
3D model PD14 (DIP, 14-Pin, Row Spacing 7.62 mm, Pitch 2.54 mm)
pins on every part: 3 GND (power), 7 V- (power), 10 V+ (power), 14 V+ (power)
part A pins: 1 IN- (in), 2 IN+ (in), 4 LTCH (in), 5 OUT (out)
part B pins: 8 IN- (in), 9 IN+ (in), 11 LTCH (in), 12 OUT (out)

## MAX902ESD
designator U?
High-speed, Low-power Voltage Comparator; Note: Pin 14 is Analog V+ and pin 10 is Digital V+; Pin 7 is Analog V- and substrate. Pins 6 and 13 are NC and not drawn.; Published: 16-Jan-2001; LatestRevisionDate: 13-Apr-2006; LatestRevisionNote: IPC-7351 Footprint Added.; DatasheetVersion: Nov-1992; PackageReference: NSO14; Publisher: Altium Limited; PackageDescription: 14-Pin Small Outline Integrated Circuit 1.27 mm Pitch; Code_JEDEC: MS-012-AB; Code_IPC: SOIC127P600-14; ComponentLink1Description: Manufacturer Link; ComponentLink1URL: http://www.maxim-ic.com/; ComponentLink2Description: Datasheet; ComponentLink2URL: http://pdfserv.maxim-ic.com/en/ds/MAX900-MAX903.pdf
footprint NSO14_N (SOIC, 14-Leads, Body 8.7x3.9mm, Pitch 1.27mm, IPC Medium Density)
footprint NSO14_L (SOIC, 14-Leads, Body 8.7x3.9mm, Pitch 1.27mm, IPC High Density)
footprint NSO14_M (SOIC, 14-Leads, Body 8.7x3.9mm, Pitch 1.27mm, IPC Low Density)
3D model NSO14 (14-Pin Small Outline Integrated Circuit 1.27 mm Pitch)
pins on every part: 3 GND (power), 7 V- (power), 10 V+ (power), 14 V+ (power)
part A pins: 1 IN- (in), 2 IN+ (in), 4 LTCH (in), 5 OUT (out)
part B pins: 8 IN- (in), 9 IN+ (in), 11 LTCH (in), 12 OUT (out)

## MAX902MJD
designator U?
High-speed, Low-power Voltage Comparator; Note: Pin 14 is Analog V+ and pin 10 is Digital V+; Pin 7 is Analog V- and substrate. Pins 6 and 13 are NC and not drawn.; Published: 16-Jan-2001; LatestRevisionDate: 29-May-2009; LatestRevisionNote: Component Body Added.; DatasheetVersion: Nov-1992; PackageVersion: 1996; PackageReference: JD14; Publisher: Altium Limited; PackageDescription: DIP, 14-Pin, Row Spacing 7.62 mm, Pitch 2.54 mm; ComponentLink1Description: Manufacturer Link; ComponentLink1URL: http://www.maxim-ic.com/; ComponentLink2Description: Datasheet; ComponentLink2URL: http://pdfserv.maxim-ic.com/en/ds/MAX900-MAX903.pdf
footprint JD14 (DIP, 14-Leads, Row Spacing 7.62mm, Pitch 2.54mm, Body 19.56x6.73mm)
3D model JD14 (DIP, 14-Pin, Row Spacing 7.62 mm, Pitch 2.54 mm)
pins on every part: 3 GND (power), 7 V- (power), 10 V+ (power), 14 V+ (power)
part A pins: 1 IN- (in), 2 IN+ (in), 4 LTCH (in), 5 OUT (out)
part B pins: 8 IN- (in), 9 IN+ (in), 11 LTCH (in), 12 OUT (out)

## MAX903CPA
designator U?
High-speed, Low-power Voltage Comparator; Note: Pin 1 is Analog V+ and pin 8 is Digital V+; Pin 4 is Analog V- and substrate.; Published: 16-Jan-2001; LatestRevisionDate: 29-May-2009; LatestRevisionNote: Component Body Added.; DatasheetVersion: Nov-1992; PackageVersion: RevB, 21-0043; PackageReference: PA8; Publisher: Altium Limited; PackageDescription: DIP, 8-Pin, Row Spacing 7.62 mm, Pitch 2.54 mm; Code_JEDEC: MS-001-AB; ComponentLink1Description: Manufacturer Link; ComponentLink1URL: http://www.maxim-ic.com/; ComponentLink2Description: Datasheet; ComponentLink2URL: http://pdfserv.maxim-ic.com/en/ds/MAX900-MAX903.pdf
footprint PA8 (DIP, 8-Leads, Row Spacing 7.62mm, Pitch 2.54mm, Body 9.38x7.24mm)
3D model PA8 (DIP, 8-Pin, Row Spacing 7.62 mm, Pitch 2.54 mm)
pins: 1 V+ (power), 2 IN+ (in), 3 IN- (in), 4 V- (power), 5 LTCH (in), 6 GND (power), 7 OUT (out), 8 V+ (power)

## MAX903CSA
designator U?
High-speed, Low-power Voltage Comparator; Note: Pin 1 is Analog V+ and pin 8 is Digital V+; Pin 4 is Analog V- and substrate.; Published: 16-Jan-2001; LatestRevisionDate: 13-Apr-2006; LatestRevisionNote: IPC-7351 Footprint Added.; DatasheetVersion: Nov-1992; PackageReference: NSO8; Publisher: Altium Limited; PackageDescription: 8-Pin Small Outline Integrated Circuit 1.27 mm Pitch; Code_JEDEC: MS-012-AA; Code_IPC: SOIC127P600-8; ComponentLink1Description: Manufacturer Link; ComponentLink1URL: http://www.maxim-ic.com/; ComponentLink2Description: Datasheet; ComponentLink2URL: http://pdfserv.maxim-ic.com/en/ds/MAX900-MAX903.pdf
footprint NSO8_N (SOIC, 8-Leads, Body 4.9x3.9mm, Pitch 1.27mm, IPC Medium Density)
footprint NSO8_L (SOIC, 8-Leads, Body 4.9x3.9mm, Pitch 1.27mm, IPC High Density)
footprint NSO8_M (SOIC, 8-Leads, Body 4.9x3.9mm, Pitch 1.27mm, IPC Low Density)
3D model NSO8 (8-Pin Small Outline Integrated Circuit 1.27 mm Pitch)
pins: 1 V+ (power), 2 IN+ (in), 3 IN- (in), 4 V- (power), 5 LTCH (in), 6 GND (power), 7 OUT (out), 8 V+ (power)

## MAX903EPA
designator U?
High-speed, Low-power Voltage Comparator; Note: Pin 1 is Analog V+ and pin 8 is Digital V+; Pin 4 is Analog V- and substrate.; Published: 16-Jan-2001; LatestRevisionDate: 29-May-2009; LatestRevisionNote: Component Body Added.; DatasheetVersion: Nov-1992; PackageVersion: RevB, 21-0043; PackageReference: PA8; Publisher: Altium Limited; PackageDescription: DIP, 8-Pin, Row Spacing 7.62 mm, Pitch 2.54 mm; Code_JEDEC: MS-001-AB; ComponentLink1Description: Manufacturer Link; ComponentLink1URL: http://www.maxim-ic.com/; ComponentLink2Description: Datasheet; ComponentLink2URL: http://pdfserv.maxim-ic.com/en/ds/MAX900-MAX903.pdf
footprint PA8 (DIP, 8-Leads, Row Spacing 7.62mm, Pitch 2.54mm, Body 9.38x7.24mm)
3D model PA8 (DIP, 8-Pin, Row Spacing 7.62 mm, Pitch 2.54 mm)
pins: 1 V+ (power), 2 IN+ (in), 3 IN- (in), 4 V- (power), 5 LTCH (in), 6 GND (power), 7 OUT (out), 8 V+ (power)

## MAX903ESA
designator U?
High-speed, Low-power Voltage Comparator; Note: Pin 1 is Analog V+ and pin 8 is Digital V+; Pin 4 is Analog V- and substrate.; Published: 16-Jan-2001; LatestRevisionDate: 13-Apr-2006; LatestRevisionNote: IPC-7351 Footprint Added.; DatasheetVersion: Nov-1992; PackageReference: NSO8; Publisher: Altium Limited; PackageDescription: 8-Pin Small Outline Integrated Circuit 1.27 mm Pitch; Code_JEDEC: MS-012-AA; Code_IPC: SOIC127P600-8; ComponentLink1Description: Manufacturer Link; ComponentLink1URL: http://www.maxim-ic.com/; ComponentLink2Description: Datasheet; ComponentLink2URL: http://pdfserv.maxim-ic.com/en/ds/MAX900-MAX903.pdf
footprint NSO8_N (SOIC, 8-Leads, Body 4.9x3.9mm, Pitch 1.27mm, IPC Medium Density)
footprint NSO8_L (SOIC, 8-Leads, Body 4.9x3.9mm, Pitch 1.27mm, IPC High Density)
footprint NSO8_M (SOIC, 8-Leads, Body 4.9x3.9mm, Pitch 1.27mm, IPC Low Density)
3D model NSO8 (8-Pin Small Outline Integrated Circuit 1.27 mm Pitch)
pins: 1 V+ (power), 2 IN+ (in), 3 IN- (in), 4 V- (power), 5 LTCH (in), 6 GND (power), 7 OUT (out), 8 V+ (power)

## MAX903MJA
designator U?
High-speed, Low-power Voltage Comparator; Note: Pin 1 is Analog V+ and pin 8 is Digital V+; Pin 4 is Analog V- and substrate.; Published: 16-Jan-2001; LatestRevisionDate: 29-May-2009; LatestRevisionNote: Component Body Added.; DatasheetVersion: Nov-1992; PackageVersion: 1996; PackageReference: JA8; Publisher: Altium Limited; PackageDescription: DIP, 8-Pin, Row Spacing 7.62 mm, Pitch 2.54 mm; ComponentLink1Description: Manufacturer Link; ComponentLink1URL: http://www.maxim-ic.com/; ComponentLink2Description: Datasheet; ComponentLink2URL: http://pdfserv.maxim-ic.com/en/ds/MAX900-MAX903.pdf
footprint JA8 (DIP, 8-Leads, Row Spacing 7.62mm, Pitch 2.54mm, Body 9.91x6.73mm)
3D model PA8 (DIP, 8-Pin, Row Spacing 7.62 mm, Pitch 2.54 mm)
pins: 1 V+ (power), 2 IN+ (in), 3 IN- (in), 4 V- (power), 5 LTCH (in), 6 GND (power), 7 OUT (out), 8 V+ (power)

## MAX907CPA
designator U?
Dual High-speed, Ultra Low-power, Single-Supply TTL Comparator; Published: 16-Jan-2001; LatestRevisionDate: 29-May-2009; LatestRevisionNote: Component Body Added.; DatasheetVersion: Jul-1994; PackageVersion: RevB, 21-0043; PackageReference: PA8; Publisher: Altium Limited; PackageDescription: DIP, 8-Pin, Row Spacing 7.62 mm, Pitch 2.54 mm; Code_JEDEC: MS-001-AB; ComponentLink1Description: Manufacturer Link; ComponentLink1URL: http://www.maxim-ic.com/; ComponentLink2Description: Datasheet; ComponentLink2URL: http://pdfserv.maxim-ic.com/en/ds/MAX907-MAX909.pdf
footprint PA8 (DIP, 8-Leads, Row Spacing 7.62mm, Pitch 2.54mm, Body 9.38x7.24mm)
3D model PA8 (DIP, 8-Pin, Row Spacing 7.62 mm, Pitch 2.54 mm)
simulation model MAX907 (SUBCKT)
pins on every part: 4 GND (power), 8 V+ (power)
part A pins: 1 OUT (out), 2 IN- (in), 3 IN+ (in)
part B pins: 5 IN+ (in), 6 IN- (in), 7 OUT (out)

## MAX907CSA
designator U?
Dual High-speed, Ultra Low-power, Single-Supply TTL comparator; Published: 16-Jan-2001; LatestRevisionDate: 13-Apr-2006; LatestRevisionNote: IPC-7351 Footprint Added.; DatasheetVersion: Jul-1994; PackageReference: NSO8; Publisher: Altium Limited; PackageDescription: 8-Pin Small Outline Integrated Circuit 1.27 mm Pitch; Code_JEDEC: MS-012-AA; Code_IPC: SOIC127P600-8; ComponentLink1Description: Manufacturer Link; ComponentLink1URL: http://www.maxim-ic.com/; ComponentLink2Description: Datasheet; ComponentLink2URL: http://pdfserv.maxim-ic.com/en/ds/MAX907-MAX909.pdf
footprint NSO8_N (SOIC, 8-Leads, Body 4.9x3.9mm, Pitch 1.27mm, IPC Medium Density)
footprint NSO8_L (SOIC, 8-Leads, Body 4.9x3.9mm, Pitch 1.27mm, IPC High Density)
footprint NSO8_M (SOIC, 8-Leads, Body 4.9x3.9mm, Pitch 1.27mm, IPC Low Density)
3D model NSO8 (8-Pin Small Outline Integrated Circuit 1.27 mm Pitch)
simulation model MAX907 (SUBCKT)
pins on every part: 4 GND (power), 8 V+ (power)
part A pins: 1 OUT (out), 2 IN- (in), 3 IN+ (in)
part B pins: 5 IN+ (in), 6 IN- (in), 7 OUT (out)

## MAX907EPA
designator U?
Dual High-speed, Ultra Low-power, Single-Supply TTL comparator; Published: 16-Jan-2001; LatestRevisionDate: 29-May-2009; LatestRevisionNote: Component Body Added.; DatasheetVersion: Jul-1994; PackageVersion: RevB, 21-0043; PackageReference: PA8; Publisher: Altium Limited; PackageDescription: DIP, 8-Pin, Row Spacing 7.62 mm, Pitch 2.54 mm; Code_JEDEC: MS-001-AB; ComponentLink1Description: Manufacturer Link; ComponentLink1URL: http://www.maxim-ic.com/; ComponentLink2Description: Datasheet; ComponentLink2URL: http://pdfserv.maxim-ic.com/en/ds/MAX907-MAX909.pdf
footprint PA8 (DIP, 8-Leads, Row Spacing 7.62mm, Pitch 2.54mm, Body 9.38x7.24mm)
3D model PA8 (DIP, 8-Pin, Row Spacing 7.62 mm, Pitch 2.54 mm)
simulation model MAX907 (SUBCKT)
pins on every part: 4 GND (power), 8 V+ (power)
part A pins: 1 OUT (out), 2 IN- (in), 3 IN+ (in)
part B pins: 5 IN+ (in), 6 IN- (in), 7 OUT (out)

## MAX907ESA
designator U?
Dual High-speed, Ultra Low-power, Single-Supply TTL comparator; Published: 16-Jan-2001; LatestRevisionDate: 13-Apr-2006; LatestRevisionNote: IPC-7351 Footprint Added.; DatasheetVersion: Jul-1994; PackageReference: NSO8; Publisher: Altium Limited; PackageDescription: 8-Pin Small Outline Integrated Circuit 1.27 mm Pitch; Code_JEDEC: MS-012-AA; Code_IPC: SOIC127P600-8; ComponentLink1Description: Manufacturer Link; ComponentLink1URL: http://www.maxim-ic.com/; ComponentLink2Description: Datasheet; ComponentLink2URL: http://pdfserv.maxim-ic.com/en/ds/MAX907-MAX909.pdf
footprint NSO8_N (SOIC, 8-Leads, Body 4.9x3.9mm, Pitch 1.27mm, IPC Medium Density)
footprint NSO8_L (SOIC, 8-Leads, Body 4.9x3.9mm, Pitch 1.27mm, IPC High Density)
footprint NSO8_M (SOIC, 8-Leads, Body 4.9x3.9mm, Pitch 1.27mm, IPC Low Density)
3D model NSO8 (8-Pin Small Outline Integrated Circuit 1.27 mm Pitch)
simulation model MAX907 (SUBCKT)
pins on every part: 4 GND (power), 8 V+ (power)
part A pins: 1 OUT (out), 2 IN- (in), 3 IN+ (in)
part B pins: 5 IN+ (in), 6 IN- (in), 7 OUT (out)

## MAX907MJA
designator U?
Dual High-speed, Ultra Low-power, Single-Supply TTL comparator; Published: 16-Jan-2001; LatestRevisionDate: 29-May-2009; LatestRevisionNote: Component Body Added.; DatasheetVersion: Jul-1994; PackageVersion: 1996; PackageReference: JA8; Publisher: Altium Limited; PackageDescription: DIP, 8-Pin, Row Spacing 7.62 mm, Pitch 2.54 mm; ComponentLink1Description: Manufacturer Link; ComponentLink1URL: http://www.maxim-ic.com/; ComponentLink2Description: Datasheet; ComponentLink2URL: http://pdfserv.maxim-ic.com/en/ds/MAX907-MAX909.pdf
footprint JA8 (DIP, 8-Leads, Row Spacing 7.62mm, Pitch 2.54mm, Body 9.91x6.73mm)
3D model PA8 (DIP, 8-Pin, Row Spacing 7.62 mm, Pitch 2.54 mm)
simulation model MAX907 (SUBCKT)
pins on every part: 4 GND (power), 8 V+ (power)
part A pins: 1 OUT (out), 2 IN- (in), 3 IN+ (in)
part B pins: 5 IN+ (in), 6 IN- (in), 7 OUT (out)

## MAX908CPD
designator U?
Quad High-speed, Ultra Low-power, Single-Supply TTL comparator; Published: 16-Jan-2001; LatestRevisionDate: 29-May-2009; LatestRevisionNote: Component Body Added.; DatasheetVersion: Jul-1994; PackageVersion: RevB, 21-0043; PackageReference: PD14; Publisher: Altium Limited; PackageDescription: DIP, 14-Pin, Row Spacing 7.62 mm, Pitch 2.54 mm; Code_JEDEC: MS-001-AC; ComponentLink1Description: Manufacturer Link; ComponentLink1URL: http://www.maxim-ic.com/; ComponentLink2Description: Datasheet; ComponentLink2URL: http://pdfserv.maxim-ic.com/en/ds/MAX907-MAX909.pdf
footprint PD14 (DIP, 14-Leads, Row Spacing 7.62mm, Pitch 2.54mm, Body 19.05x7.24mm)
3D model PD14 (DIP, 14-Pin, Row Spacing 7.62 mm, Pitch 2.54 mm)
simulation model MAX908 (SUBCKT)
pins on every part: 4 V+ (power), 11 GND (power)
part A pins: 1 OUT (out), 2 IN- (in), 3 IN+ (in)
part B pins: 5 IN+ (in), 6 IN- (in), 7 OUT (out)
part C pins: 8 OUT (out), 9 IN- (in), 10 IN+ (in)
part D pins: 12 IN+ (in), 13 IN- (in), 14 OUT (out)

## MAX908CSD
designator U?
Quad High-speed, Ultra Low-power, Single-Supply TTL comparator; Published: 16-Jan-2001; LatestRevisionDate: 13-Apr-2006; LatestRevisionNote: IPC-7351 Footprint Added.; DatasheetVersion: Jul-1994; PackageReference: NSO14; Publisher: Altium Limited; PackageDescription: 14-Pin Small Outline Integrated Circuit 1.27 mm Pitch; Code_JEDEC: MS-012-AB; Code_IPC: SOIC127P600-14; ComponentLink1Description: Manufacturer Link; ComponentLink1URL: http://www.maxim-ic.com/; ComponentLink2Description: Datasheet; ComponentLink2URL: http://pdfserv.maxim-ic.com/en/ds/MAX907-MAX909.pdf
footprint NSO14_N (SOIC, 14-Leads, Body 8.7x3.9mm, Pitch 1.27mm, IPC Medium Density)
footprint NSO14_L (SOIC, 14-Leads, Body 8.7x3.9mm, Pitch 1.27mm, IPC High Density)
footprint NSO14_M (SOIC, 14-Leads, Body 8.7x3.9mm, Pitch 1.27mm, IPC Low Density)
3D model NSO14 (14-Pin Small Outline Integrated Circuit 1.27 mm Pitch)
simulation model MAX908 (SUBCKT)
pins on every part: 4 V+ (power), 11 GND (power)
part A pins: 1 OUT (out), 2 IN- (in), 3 IN+ (in)
part B pins: 5 IN+ (in), 6 IN- (in), 7 OUT (out)
part C pins: 8 OUT (out), 9 IN- (in), 10 IN+ (in)
part D pins: 12 IN+ (in), 13 IN- (in), 14 OUT (out)

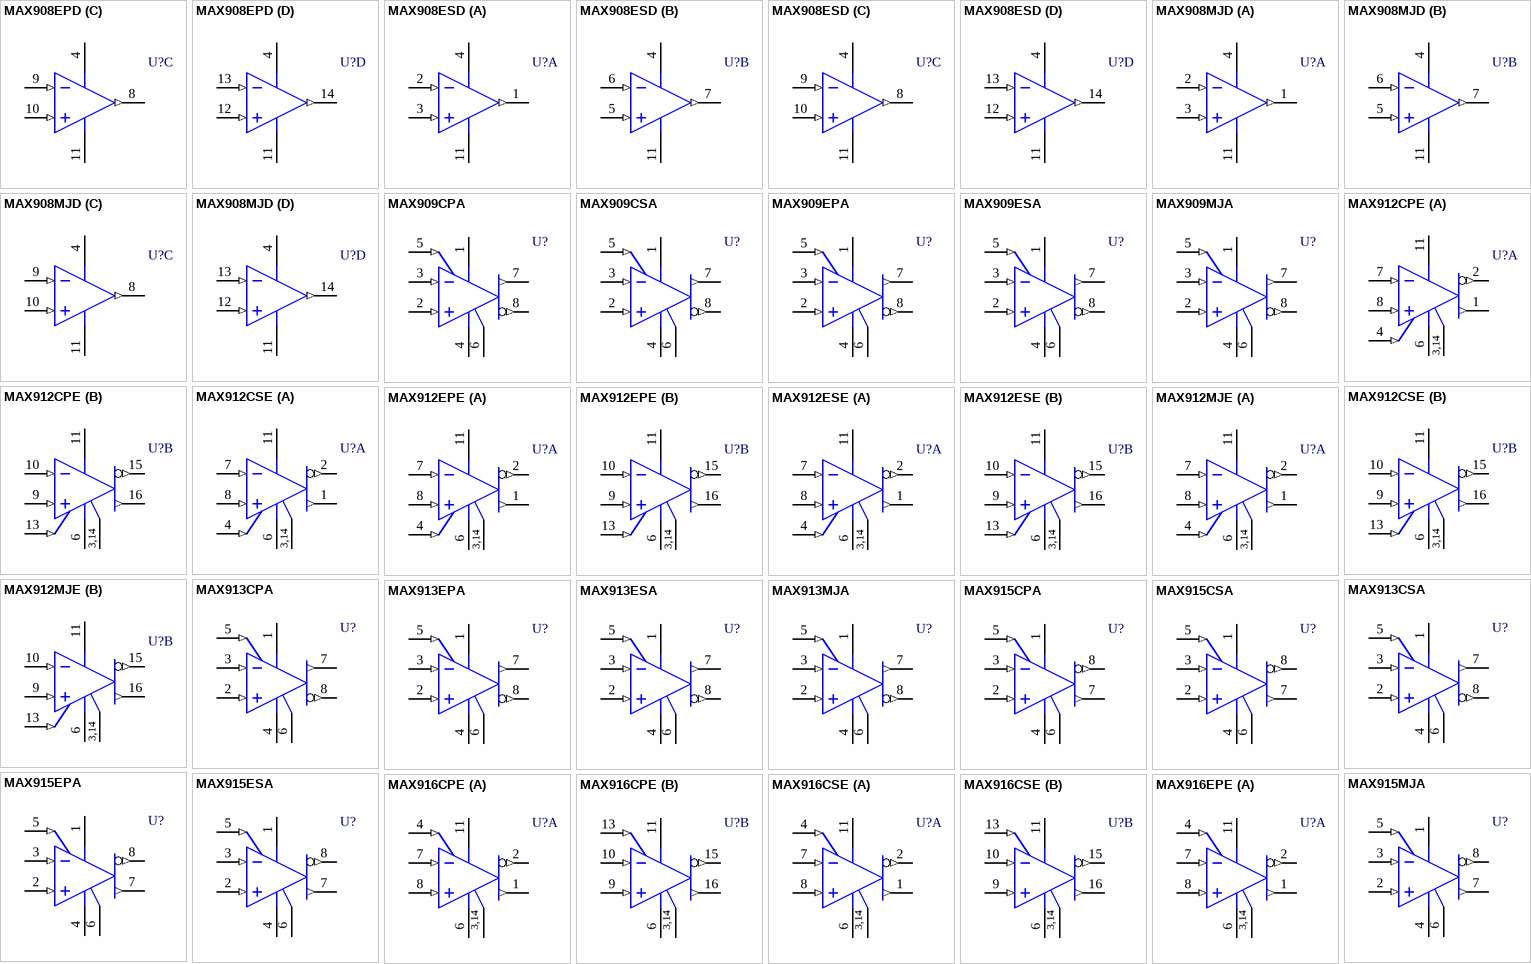
[diagram p3: symbols MAX908EPD to MAX916EPE]

## MAX908EPD
designator U?
Quad High-speed, Ultra Low-power, Single-Supply TTL comparator; Published: 16-Jan-2001; LatestRevisionDate: 29-May-2009; LatestRevisionNote: Component Body Added.; DatasheetVersion: Jul-1994; PackageVersion: RevB, 21-0043; PackageReference: PD14; Publisher: Altium Limited; PackageDescription: DIP, 14-Pin, Row Spacing 7.62 mm, Pitch 2.54 mm; Code_JEDEC: MS-001-AC; ComponentLink1Description: Manufacturer Link; ComponentLink1URL: http://www.maxim-ic.com/; ComponentLink2Description: Datasheet; ComponentLink2URL: http://pdfserv.maxim-ic.com/en/ds/MAX907-MAX909.pdf
footprint PD14 (DIP, 14-Leads, Row Spacing 7.62mm, Pitch 2.54mm, Body 19.05x7.24mm)
3D model PD14 (DIP, 14-Pin, Row Spacing 7.62 mm, Pitch 2.54 mm)
simulation model MAX908 (SUBCKT)
pins on every part: 4 V+ (power), 11 GND (power)
part A pins: 1 OUT (out), 2 IN- (in), 3 IN+ (in)
part B pins: 5 IN+ (in), 6 IN- (in), 7 OUT (out)
part C pins: 8 OUT (out), 9 IN- (in), 10 IN+ (in)
part D pins: 12 IN+ (in), 13 IN- (in), 14 OUT (out)

## MAX908ESD
designator U?
Quad High-speed, Ultra Low-power, Single-Supply TTL comparator; Published: 16-Jan-2001; LatestRevisionDate: 13-Apr-2006; LatestRevisionNote: IPC-7351 Footprint Added.; DatasheetVersion: Jul-1994; PackageReference: NSO14; Publisher: Altium Limited; PackageDescription: 14-Pin Small Outline Integrated Circuit 1.27 mm Pitch; Code_JEDEC: MS-012-AB; Code_IPC: SOIC127P600-14; ComponentLink1Description: Manufacturer Link; ComponentLink1URL: http://www.maxim-ic.com/; ComponentLink2Description: Datasheet; ComponentLink2URL: http://pdfserv.maxim-ic.com/en/ds/MAX907-MAX909.pdf
footprint NSO14_N (SOIC, 14-Leads, Body 8.7x3.9mm, Pitch 1.27mm, IPC Medium Density)
footprint NSO14_L (SOIC, 14-Leads, Body 8.7x3.9mm, Pitch 1.27mm, IPC High Density)
footprint NSO14_M (SOIC, 14-Leads, Body 8.7x3.9mm, Pitch 1.27mm, IPC Low Density)
3D model NSO14 (14-Pin Small Outline Integrated Circuit 1.27 mm Pitch)
simulation model MAX908 (SUBCKT)
pins on every part: 4 V+ (power), 11 GND (power)
part A pins: 1 OUT (out), 2 IN- (in), 3 IN+ (in)
part B pins: 5 IN+ (in), 6 IN- (in), 7 OUT (out)
part C pins: 8 OUT (out), 9 IN- (in), 10 IN+ (in)
part D pins: 12 IN+ (in), 13 IN- (in), 14 OUT (out)

## MAX908MJD
designator U?
Quad High-speed, Ultra Low-power, Single-Supply TTL comparator; Published: 16-Jan-2001; LatestRevisionDate: 29-May-2009; LatestRevisionNote: Component Body Added.; DatasheetVersion: Jul-1994; PackageVersion: 1996; PackageReference: JD14; Publisher: Altium Limited; PackageDescription: DIP, 14-Pin, Row Spacing 7.62 mm, Pitch 2.54 mm; ComponentLink1Description: Manufacturer Link; ComponentLink1URL: http://www.maxim-ic.com/; ComponentLink2Description: Datasheet; ComponentLink2URL: http://pdfserv.maxim-ic.com/en/ds/MAX907-MAX909.pdf
footprint JD14 (DIP, 14-Leads, Row Spacing 7.62mm, Pitch 2.54mm, Body 19.56x6.73mm)
3D model JD14 (DIP, 14-Pin, Row Spacing 7.62 mm, Pitch 2.54 mm)
simulation model MAX908 (SUBCKT)
pins on every part: 4 V+ (power), 11 GND (power)
part A pins: 1 OUT (out), 2 IN- (in), 3 IN+ (in)
part B pins: 5 IN+ (in), 6 IN- (in), 7 OUT (out)
part C pins: 8 OUT (out), 9 IN- (in), 10 IN+ (in)
part D pins: 12 IN+ (in), 13 IN- (in), 14 OUT (out)

## MAX909CPA
designator U?
Single High-speed, Ultra Low-power, Single-Supply TTL comparator; Published: 16-Jan-2001; LatestRevisionDate: 29-May-2009; LatestRevisionNote: Component Body Added.; DatasheetVersion: Jul-1994; PackageVersion: RevB, 21-0043; PackageReference: PA8; Publisher: Altium Limited; PackageDescription: DIP, 8-Pin, Row Spacing 7.62 mm, Pitch 2.54 mm; Code_JEDEC: MS-001-AB; ComponentLink1Description: Manufacturer Link; ComponentLink1URL: http://www.maxim-ic.com/; ComponentLink2Description: Datasheet; ComponentLink2URL: http://pdfserv.maxim-ic.com/en/ds/MAX907-MAX909.pdf
footprint PA8 (DIP, 8-Leads, Row Spacing 7.62mm, Pitch 2.54mm, Body 9.38x7.24mm)
3D model PA8 (DIP, 8-Pin, Row Spacing 7.62 mm, Pitch 2.54 mm)
simulation model MAX909 (SUBCKT)
pins: 1 V+ (power), 2 IN+ (in), 3 IN- (in), 4 V- (power), 5 LE (in), 6 GND (power), 7 Q (out), 8 ~{Q} (out)